# EAGLE library part DG9409DN-T1-E4 (library Vishay_By_element14_Batch_1)
Analog Multiplexers
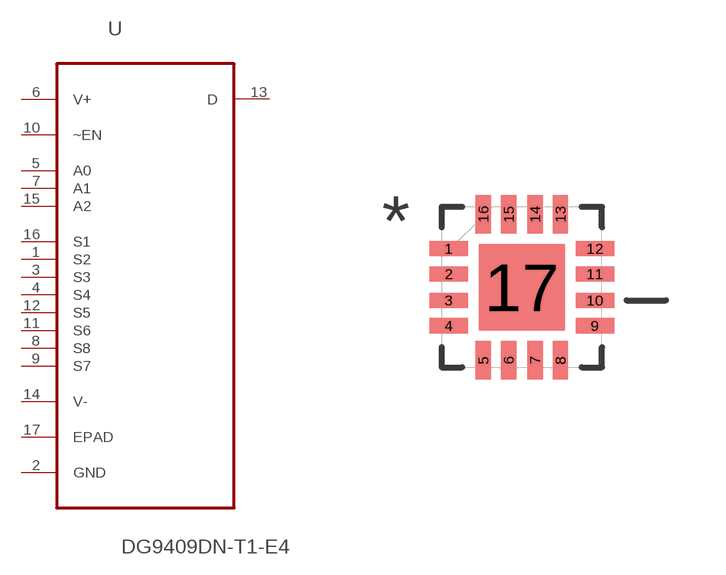
[diagram p67: symbol with the pads of QFN65P400X400X100-17N; footprint QFN65P400X400X100-17N]

Designator prefix U

## DG9409DN-T1-E4 (MPN: DG9409DN-T1-E4; OC_FARNELL: -; OC_NEWARK: 65K2483; PACKAGE: QFN-16; SUPPLIER: VISHAY SILICONIX)  [QFN65P400X400X100-17N]
1  S2  pas
2  GND  pas
3  S3  pas
4  S4  pas
5  A0  in
6  V+  pwr
7  A1  in
8  S8  pas
9  S7  pas
10  ~EN  in
11  S6  pas
12  S5  pas
13  D  pas
14  V-  pwr
15  A2  in
16  S1  pas
17  EPAD  pas

## Footprint QFN65P400X400X100-17N (pad centres in mm)
smd 0.965 x 0.381: 1 -1.829,0.965; 2 -1.829,0.33; 3 -1.829,-0.33; 4 -1.829,-0.965; 9 1.829,-0.965; 10 1.829,-0.33; 11 1.829,0.33; 12 1.829,0.965
smd 0.381 x 0.965: 5 -0.965,-1.829; 6 -0.33,-1.829; 7 0.33,-1.829; 8 0.965,-1.829; 13 0.965,1.829; 14 0.33,1.829; 15 -0.33,1.829; 16 -0.965,1.829
smd 2.159 x 2.159: 17 0,0